# Altium footprint library HEXSWITCH.PcbLib: 1 footprints
Each footprint in its own frame and in the unit in brackets; x right, y up, seen from the top. Pads: shape width x height; smd on the part's side, far side on the other; paste and mask are expansions set on the pad; w line width, h text height; cw(c..) or ccw(c..) is an arc to the next point about the centre after c.
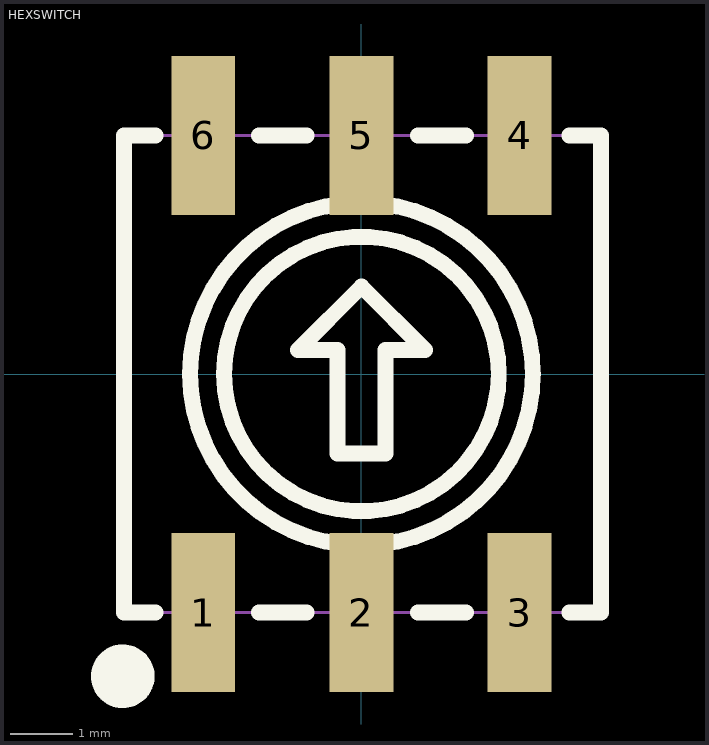
[diagram p0: the footprint, top view; thin cyan lines are the x and y axes]

## HEXSWITCH [mil]
height 139.37
pads (6):
  rect 40x100 smd: 1(-99.37,-150) 2(0,-150) 3(99.37,-150) 4(99.37,150) 5(0,150) 6(-99.37,150)
Top Overlay:
  circle w10: c0,0 r107.7
  circle w10: c0,0 r86.31
  circle w20: c-150,-190 r10
  lines w10: -129.37,-150 -149.37,-150 -149.37,150 -129.37,150 ; -64.37,-150 -34.37,-150 ; -64.37,150 -34.37,150 ; 35.63,-150 65.63,-150 ; 35.63,150 65.63,150 ; 130.63,-150 150.63,-150 150.63,150 130.63,150 ; -40,15 -15,15 -15,-50 15,-50 15,15 40,15 0,55 -40,15
Mechanical 13:
  lines w1.97: -150,-150 -150,150 150,150 150,-150 -150,-150
3D body: height 129.92, standoff 0, extent -40.05,-50.02 40.02,55.03
3D body: height 139.37, standoff 0, extent -149.98,-149.98 149.98,149.98
3D body: height 139.37, standoff 0, extent -108.02,-108.02 108.02,108.02